# Altium footprint library 1.0MM.PcbLib: 1 footprints
Each footprint in its own frame and in the unit in brackets; x right, y up, seen from the top. Pads: shape width x height; smd on the part's side, far side on the other; paste and mask are expansions set on the pad; w line width, h text height; cw(c..) or ccw(c..) is an arc to the next point about the centre after c.
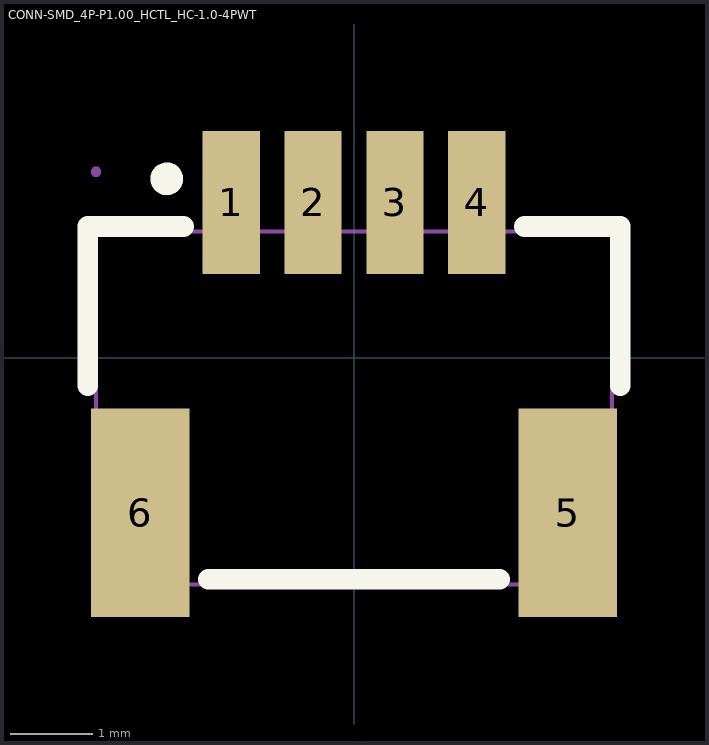
[diagram p0: the footprint, top view; thin cyan lines are the x and y axes]

## CONN-SMD_4P-P1.00_HCTL_HC-1.0-4PWT [mm]
pads (6):
  rect 0.7x1.75 smd paste+0 mask+0.05: 1(-1.5,1.895) 2(-0.5,1.895) 3(0.5,1.895) 4(1.5,1.895)
  rect 1.2x2.55 smd paste+0 mask+0.05: 5(2.61,-1.895) 6(-2.61,-1.895)
Top Overlay:
  circle w0.2: c-2.286,2.183 r0.1
  lines w0.254: -3.25,-0.343 -3.25,1.599 -2.081,1.599 -2.711,1.599 ; -1.779,-2.705 1.779,-2.705 ; 2.081,1.599 3.25,1.599 3.25,-0.343
Mechanical 6:
  circle w0.2: c-1.524,2.564 r0.1
Mechanical 15:
  region: -3.09,2.269 -3.09,2.294 -3.125,2.33 -3.175,2.33 -3.21,2.294 -3.21,2.27 -3.21,2.245 -3.175,2.21 -3.125,2.21 -3.09,2.245 -3.09,2.269
  region: 1.4,2.281 1.6,2.281 1.6,1.48 1.4,1.48
  region: -2.71,-1.139 -2.51,-1.139 -2.51,-2.569 -2.71,-2.569
  region: 2.51,-1.139 2.71,-1.139 2.71,-2.569 2.51,-2.569
  region: 0.4,2.281 0.6,2.281 0.6,1.48 0.4,1.48
  region: -0.6,2.281 -0.4,2.281 -0.4,1.48 -0.6,1.48
  region: -1.6,2.281 -1.4,2.281 -1.4,1.48 -1.6,1.48
  lines w0.051: -3.15,-2.769 -3.15,1.541 3.15,1.541 3.15,-2.769 -3.15,-2.769